# EAGLE library part MC6 (library con-phoenix-381_l)
Mini-Combicon 3.81mm horizontal 6-polig MC 1,5/6-G-3,81 Artikel-Nr. 1803331
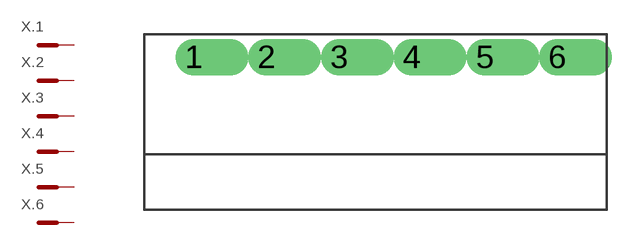
[diagram p12: symbol with the pads of MC6; footprint MC6]

Designator prefix X; gates .1=MCST .2=MCST .3=MCST .4=MCST .5=MCST .6=MCST

## MC6  [MC6]
1  .1:SK  pas
2  .2:SK  pas
3  .3:SK  pas
4  .4:SK  pas
5  .5:SK  pas
6  .6:SK  pas

## Footprint MC6 (pad centres in mm)
Mini-Combicon 3.81mm horizontal 6-polig MC 1,5/6-G-3,81 Artikel-Nr. 1803331
drill 1.27 offset: 1 -9.525,0; 2 -5.715,0; 3 -1.905,0; 4 1.905,0; 5 5.715,0; 6 9.525,0